# EAGLE library part LM319N (library ST_Microelctronics_By_element14_Batch_1)
High speed dual comparators
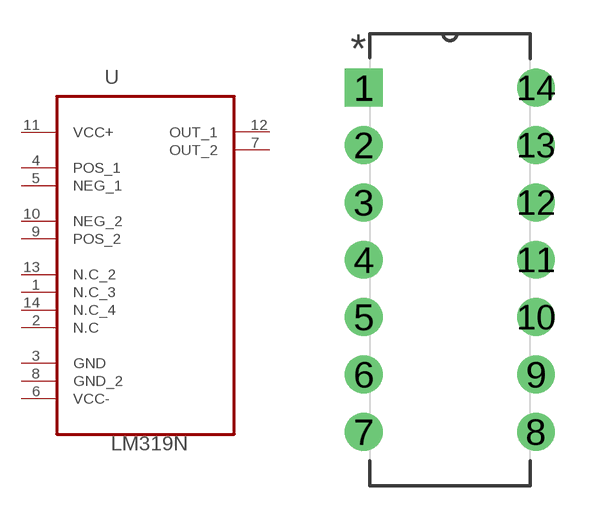
[diagram p114: symbol with the pads of DIP254P762X510-14; footprint DIP254P762X510-14]

Designator prefix U

## LM319N (MPN: LM319N; OC_FARNELL: 1094247; OC_NEWARK: 89K0688; PACKAGE: PDIP-14; SUPPLIER: STMICROELECTRONICS)  [DIP254P762X510-14]
1  N.C_3  nc
2  N.C  nc
3  GND  pas
4  POS_1  in
5  NEG_1  in
6  VCC-  pwr
7  OUT_2  out
8  GND_2  pas
9  POS_2  in
10  NEG_2  in
11  VCC+  pwr
12  OUT_1  out
13  N.C_2  nc
14  N.C_4  nc

## Footprint DIP254P762X510-14 (pad centres in mm)
drill 1.118 square: 1 -7.62,15.24
drill 1.118: 2 -7.62,12.7; 3 -7.62,10.16; 4 -7.62,7.62; 5 -7.62,5.08; 6 -7.62,2.54; 7 -7.62,0; 8 0,0; 9 0,2.54; 10 0,5.08; 11 0,7.62; 12 0,10.16; 13 0,12.7; 14 0,15.24